# Altium footprint library SI5394A-A-GM.PcbLib: 1 footprints
Each footprint in its own frame and in the unit in brackets; x right, y up, seen from the top. Pads: shape width x height; smd on the part's side, far side on the other; paste and mask are expansions set on the pad; w line width, h text height; cw(c..) or ccw(c..) is an arc to the next point about the centre after c.
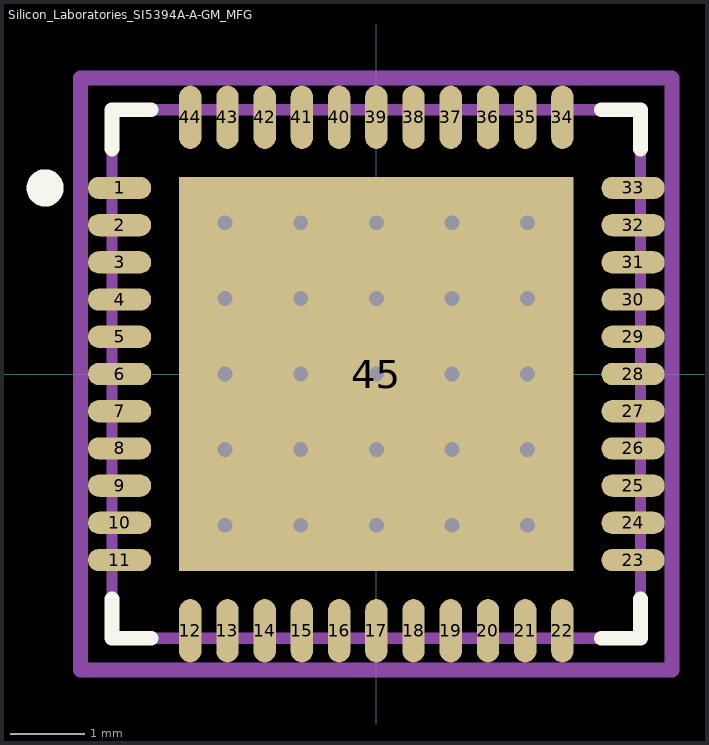
[diagram p0: the footprint, top view; thin cyan lines are the x and y axes]

## Silicon_Laboratories_SI5394A-A-GM_MFG [mm]
pads (45):
  oval 0.85x0.3 smd paste+0 mask+0: 1(-3.45,2.5) 2(-3.45,2) 3(-3.45,1.5) 4(-3.45,1) 5(-3.45,0.5) 6(-3.45,0) 7(-3.45,-0.5) 8(-3.45,-1) 9(-3.45,-1.5) 10(-3.45,-2) 11(-3.45,-2.5) 23(3.45,-2.5) 24(3.45,-2) 25(3.45,-1.5) 26(3.45,-1) 27(3.45,-0.5) 28(3.45,0) 29(3.45,0.5) 30(3.45,1) 31(3.45,1.5) 32(3.45,2) 33(3.45,2.5)
  oval 0.3x0.85 smd paste+0 mask+0: 12(-2.5,-3.45) 13(-2,-3.45) 14(-1.5,-3.45) 15(-1,-3.45) 16(-0.5,-3.45) 17(0,-3.45) 18(0.5,-3.45) 19(1,-3.45) 20(1.5,-3.45) 21(2,-3.45) 22(2.5,-3.45) 34(2.5,3.45) 35(2,3.45) 36(1.5,3.45) 37(1,3.45) 38(0.5,3.45) 39(0,3.45) 40(-0.5,3.45) 41(-1,3.45) 42(-1.5,3.45) 43(-2,3.45) 44(-2.5,3.45)
  rect 5.3x5.3 smd paste-1000 mask+0: 45(0,0)
via -2.032,-2.032 diameter 0.5 hole 0.2
via -1.016,-2.032 diameter 0.5 hole 0.2
via 0,-2.032 diameter 0.5 hole 0.2
via 1.016,-2.032 diameter 0.5 hole 0.2
via 2.032,-2.032 diameter 0.5 hole 0.2
via -2.032,-1.016 diameter 0.5 hole 0.2
via -1.016,-1.016 diameter 0.5 hole 0.2
via 0,-1.016 diameter 0.5 hole 0.2
via 1.016,-1.016 diameter 0.5 hole 0.2
via 2.032,-1.016 diameter 0.5 hole 0.2
via -2.032,0 diameter 0.5 hole 0.2
via -1.016,0 diameter 0.5 hole 0.2
via 0,0 diameter 0.5 hole 0.2
via 1.016,0 diameter 0.5 hole 0.2
via 2.032,0 diameter 0.5 hole 0.2
via -2.032,1.016 diameter 0.5 hole 0.2
via -1.016,1.016 diameter 0.5 hole 0.2
via 0,1.016 diameter 0.5 hole 0.2
via 1.016,1.016 diameter 0.5 hole 0.2
via 2.032,1.016 diameter 0.5 hole 0.2
via 2.032,2.032 diameter 0.5 hole 0.2
via 1.016,2.032 diameter 0.5 hole 0.2
via 0,2.032 diameter 0.5 hole 0.2
via -1.016,2.032 diameter 0.5 hole 0.2
via -2.032,2.032 diameter 0.5 hole 0.2
Top Overlay:
  circle w0.25: c-4.45,2.5 r0.125
  lines w0.2: -3.55,-3.025 -3.55,-3.55 -3.025,-3.55 ; -3.55,3.025 -3.55,3.55 -3.025,3.55 ; 3.025,-3.55 3.55,-3.55 3.55,-3.025 ; 3.025,3.55 3.55,3.55 3.55,3.025
Top Paste:
  rectangle: 1.175,-0.625 2.425,0.625
  rectangle: -0.625,-0.625 0.625,0.625
  rectangle: -2.425,-0.625 -1.175,0.625
  rectangle: 1.175,1.175 2.425,2.425
  rectangle: -0.625,1.175 0.625,2.425
  rectangle: -2.425,1.175 -1.175,2.425
  rectangle: 1.175,-2.425 2.425,-1.175
  rectangle: -0.625,-2.425 0.625,-1.175
  rectangle: -2.425,-2.425 -1.175,-1.175
Mechanical 10:
  lines w0.2: -3.975,-3.975 -3.975,3.975 3.975,3.975 3.975,-3.975 -3.975,-3.975
  text ".Designator" at 0,0 h1
Mechanical 12:
  lines w0.15: -3.55,-3.55 -3.55,3.55 3.55,3.55 3.55,-3.55 -3.55,-3.55
Mechanical 15:
  lines w0.1: -0.5,0 0.5,0 ; 0,-0.5 0,0.5
  lines w0.2: -3.975,-3.975 -3.975,3.975 3.975,3.975 3.975,-3.975 -3.975,-3.975
3D body "IC_Silicon_Laboratories_SI5394A-A-GM_eec.STEP": height 0.25, standoff 0, extent -3.975,-3.975 3.975,3.975